# Altium footprint library PCB.PcbLib: 24 footprints (part 2 of 2)
Each footprint in its own frame and in the unit in brackets; x right, y up, seen from the top. Pads: shape width x height; smd on the part's side, far side on the other; paste and mask are expansions set on the pad; w line width, h text height; cw(c..) or ccw(c..) is an arc to the next point about the centre after c.
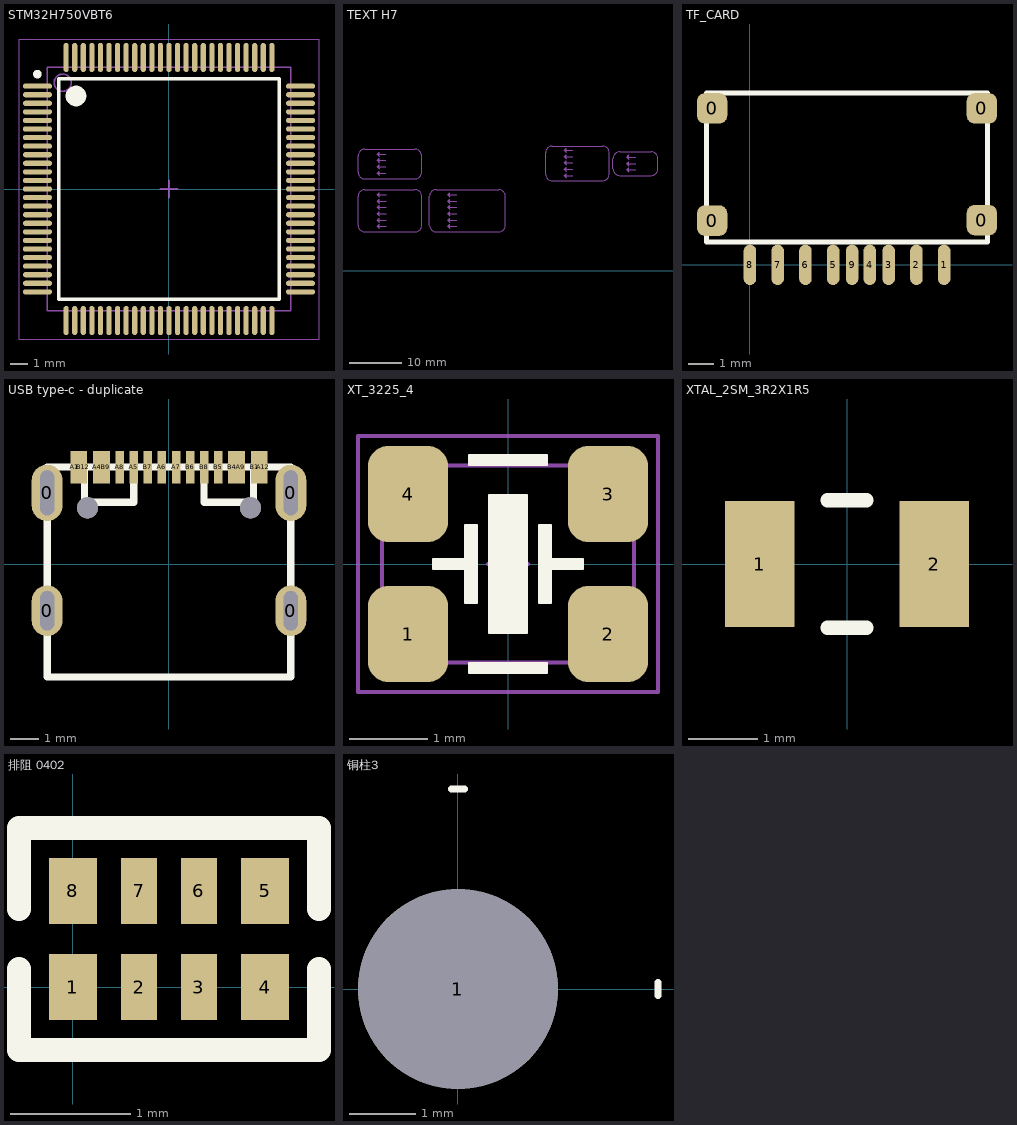
[diagram p1: the footprints below, top view; thin cyan lines are the x and y axes]

## STM32H750VBT6 [mm]
height 1.6
pads (100):
  oval 1.7x0.3 smd: 1(-7.675,6) 2(-7.675,5.5) 3(-7.675,5) 4(-7.675,4.5) 5(-7.675,4) 6(-7.675,3.5) 7(-7.675,3) 8(-7.675,2.5) 9(-7.675,2) 10(-7.675,1.5) 11(-7.675,1) 12(-7.675,0.5) 13(-7.675,0) 14(-7.675,-0.5) 15(-7.675,-1) 16(-7.675,-1.5) 17(-7.675,-2) 18(-7.675,-2.5) 19(-7.675,-3) 20(-7.675,-3.5) 21(-7.675,-4) 22(-7.675,-4.5) 23(-7.675,-5) 24(-7.675,-5.5) 25(-7.675,-6) 51(7.675,-6) 52(7.675,-5.5) 53(7.675,-5) 54(7.675,-4.5) 55(7.675,-4) 56(7.675,-3.5) 57(7.675,-3) 58(7.675,-2.5) 59(7.675,-2) 60(7.675,-1.5) 61(7.675,-1) 62(7.675,-0.5) 63(7.675,0) 64(7.675,0.5) 65(7.675,1) 66(7.675,1.5) 67(7.675,2) 68(7.675,2.5) 69(7.675,3) 70(7.675,3.5) 71(7.675,4) 72(7.675,4.5) 73(7.675,5) 74(7.675,5.5) 75(7.675,6)
  oval 0.3x1.7 smd: 26(-6,-7.675) 27(-5.5,-7.675) 28(-5,-7.675) 29(-4.5,-7.675) 30(-4,-7.675) 31(-3.5,-7.675) 32(-3,-7.675) 33(-2.5,-7.675) 34(-2,-7.675) 35(-1.5,-7.675) 36(-1,-7.675) 37(-0.5,-7.675) 38(0,-7.675) 39(0.5,-7.675) 40(1,-7.675) 41(1.5,-7.675) 42(2,-7.675) 43(2.5,-7.675) 44(3,-7.675) 45(3.5,-7.675) 46(4,-7.675) 47(4.5,-7.675) 48(5,-7.675) 49(5.5,-7.675) 50(6,-7.675) 76(6,7.675) 77(5.5,7.675) 78(5,7.675) 79(4.5,7.675) 80(4,7.675) 81(3.5,7.675) 82(3,7.675) 83(2.5,7.675) 84(2,7.675) 85(1.5,7.675) 86(1,7.675) 87(0.5,7.675) 88(0,7.675) 89(-0.5,7.675) 90(-1,7.675) 91(-1.5,7.675) 92(-2,7.675) 93(-2.5,7.675) 94(-3,7.675) 95(-3.5,7.675) 96(-4,7.675) 97(-4.5,7.675) 98(-5,7.675) 99(-5.5,7.675) 100(-6,7.675)
Top Overlay:
  circle w0.6: c-5.425,5.425 r0.3
  circle w0.25: c-7.675,6.7 r0.125
  lines w0.2: -6.425,-6.425 6.425,-6.425 6.425,6.425 -6.425,6.425 -6.425,-6.425
Mechanical 13:
  circle w0.1: c-6.2,6.2 r0.5
  lines w0.1: -7.1,-7.1 7.1,-7.1 7.1,7.1 -7.1,7.1 -7.1,-7.1
Mechanical 15:
  lines w0.05: -8.75,-8.75 8.75,-8.75 8.75,8.75 -8.75,8.75 -8.75,-8.75
  lines w0.1: -0.5,0 0.5,0 ; 0,-0.5 0,0.5
3D body "SW3dPS-LQFP100.STEP": height 1.6, standoff 0, extent -8,-8 8,8

## TEXT H7 [mm]
height 4.3
Bottom Overlay:
  lines w0.2: 18.593,18.466 16.942,18.466 ; 18.593,19.66 16.942,19.66 ; 18.593,20.853 16.942,20.853 ; 18.593,22.047 16.942,22.047 ; 18.618,8.382 16.967,8.382 ; 18.618,9.55 16.967,9.55 ; 18.618,10.77 16.967,10.77 ; 18.618,11.963 16.967,11.963 ; 18.618,13.157 16.967,13.157 ; 18.618,14.326 16.967,14.326 ; 26.848,14.072 cw(c28.118,14.072) 28.118,15.342 39.929,15.342 cw(c39.929,14.072) 41.199,14.072 ; 26.848,14.097 26.848,8.585 ccw(c28.118,8.585) 28.118,7.315 39.929,7.315 ccw(c39.929,8.585) 41.199,8.585 41.199,14.097 ; 31.979,8.382 30.328,8.382 ; 31.979,9.55 30.328,9.55 ; 31.979,10.795 30.328,10.795 ; 31.979,11.963 30.328,11.963 ; 31.979,13.157 30.328,13.157 ; 31.979,14.376 30.328,14.376 ; 53.975,18.009 52.324,18.009 ; 53.975,19.202 52.324,19.202 ; 53.975,20.396 52.324,20.396 ; 53.975,21.59 52.324,21.59 ; 53.975,22.784 52.324,22.784 ; 65.875,19.075 64.224,19.075 ; 65.875,20.269 64.224,20.269 ; 65.875,21.514 64.224,21.514 ; 70.104,19.279 cw(c68.834,19.279) 68.834,18.009 62.865,18.009 cw(c62.865,19.279) 61.595,19.279 61.595,21.209 cw(c62.865,21.209) 62.865,22.479 68.834,22.479 cw(c68.834,21.209) 70.104,21.209 ; 70.117,19.279 70.117,21.209 ; 16.942,18.466 17.323,18.847 17.323,18.085 16.942,18.466 ; 16.942,19.66 17.323,19.279 17.323,20.041 16.942,19.66 ; 16.942,20.853 17.323,21.234 17.323,20.472 16.942,20.853 ; 16.942,22.047 17.323,22.428 17.323,21.666 16.942,22.047 ; 16.967,8.382 17.348,8.001 17.348,8.763 16.967,8.382 ; 16.967,9.55 17.348,9.931 17.348,9.169 16.967,9.55 ; 16.967,10.77 17.348,11.151 17.348,10.389 16.967,10.77 ; 16.967,11.963 17.348,12.344 17.348,11.582 16.967,11.963 ; 16.967,13.157 17.348,12.776 17.348,13.538 16.967,13.157 ; 16.967,14.326 17.348,13.945 17.348,14.707 16.967,14.326 ; 30.328,8.382 30.709,8.763 30.709,8.001 30.328,8.382 ; 30.328,9.55 30.709,9.169 30.709,9.931 30.328,9.55 ; 30.328,10.795 30.709,10.414 30.709,11.176 30.328,10.795 ; 30.328,11.963 30.709,11.582 30.709,12.344 30.328,11.963 ; 30.328,13.157 30.709,13.538 30.709,12.776 30.328,13.157 ; 30.328,14.376 30.709,14.757 30.709,13.995 30.328,14.376 ; 52.324,18.009 52.705,17.628 52.705,18.39 52.324,18.009 ; 52.324,19.202 52.705,19.583 52.705,18.821 52.324,19.202 ; 52.324,20.396 52.705,20.015 52.705,20.777 52.324,20.396 ; 52.324,21.59 52.705,21.209 52.705,21.971 52.324,21.59 ; 52.324,22.784 52.705,22.403 52.705,23.165 52.324,22.784 ; 64.224,19.075 64.605,19.456 64.605,18.694 64.224,19.075 ; 64.224,20.269 64.605,19.888 64.605,20.65 64.224,20.269 ; 64.224,21.514 64.605,21.133 64.605,21.895 64.224,21.514 ; 13.31,18.644 ccw(c14.58,18.644) 14.58,17.374 24.079,17.374 ccw(c24.079,18.644) 25.349,18.644 25.349,21.717 ccw(c24.079,21.717) 24.079,22.987 14.58,22.987 ccw(c14.58,21.717) 13.31,21.717 13.31,18.644 ; 13.348,8.585 ccw(c14.618,8.585) 14.618,7.315 24.092,7.315 ccw(c24.092,8.585) 25.362,8.585 25.362,14.072 ccw(c24.092,14.072) 24.092,15.342 14.618,15.342 ccw(c14.618,14.072) 13.348,14.072 13.348,8.585 ; 48.844,18.288 ccw(c50.114,18.288) 50.114,17.018 59.614,17.018 ccw(c59.614,18.288) 60.884,18.288 60.884,22.327 ccw(c59.614,22.327) 59.614,23.597 50.114,23.597 ccw(c50.114,22.327) 48.844,22.327 48.844,18.288
  text "PC11" at 29.947,10.338 h1.3
  text "LCD_MOSI" at 60.249,19.71 h1.3
  text "PC9" at 29.947,12.725 h1.3
  text "PB4" at 51.41,21.158 h1.3
  text "PD3" at 51.41,17.577 h1.3
  text "LCD_DC" at 60.249,20.904 h1.3
  text "PE2" at 16.573,11.532 h1.3
  text "PB15" at 16.358,19.202 h1.3
  text "PC10" at 29.947,11.532 h1.3
  text "PB5" at 51.41,19.964 h1.3
  text "PB10" at 16.573,9.119 h1.3
  text "PB14" at 16.358,20.396 h1.3
  text "PC0" at 64.046,21.082 h1.3
  text "SPI2_CS1" at 25.019,17.755 h1.3
  text "SDMMC1_D1" at 40.564,12.471 h1.3
  text "LCD_RST" at 60.249,18.517 h1.3
  text "PC2" at 64.046,18.644 h1.3
  text "QSPI_CLK" at 24.727,7.696 h1.3
  text "SPI2_MISO" at 25.019,20.142 h1.3
  text "PB3" at 51.41,22.352 h1.3
  text "BK1_NCS" at 24.727,8.865 h1.3
  text "PD4" at 51.41,18.771 h1.3
  text "SDMMC1_CMD" at 40.564,7.696 h1.3
  text "PB12" at 16.358,18.009 h1.3
  text "PB13" at 16.358,21.59 h1.3
  text "PD12" at 16.573,12.725 h1.3
  text "PD11" at 16.573,13.894 h1.3
  text "PC1" at 64.046,19.837 h1.3
  text "BK1_IO0" at 24.727,13.64 h1.3
  text "LED_B" at 69.685,18.39 h1.3
  text "SDMMC1_CK" at 40.564,8.865 h1.3
  text "PD13" at 16.573,10.338 h1.3
  text "PC12" at 29.947,9.119 h1.3
  text "LCD_CLK" at 60.249,22.098 h1.3
  text "LCD_PWR" at 60.249,17.323 h1.3
  text "SDMMC1_D3" at 40.564,10.084 h1.3
  text "BK1_IO1" at 24.727,12.471 h1.3
  text "PC8" at 29.947,13.894 h1.3
  text "SPI2_MOSI" at 25.019,18.948 h1.3
  text "SPI2_SCK" at 25.019,21.336 h1.3
  text "LED_R" at 69.685,20.828 h1.3
  text "LED_G" at 69.685,19.583 h1.3
  text "BK1_IO3" at 24.727,10.084 h1.3
  text "PB2" at 16.573,7.95 h1.3
  text "PD2" at 29.947,7.95 h1.3
  text "SDMMC1_D0" at 40.564,13.64 h1.3
  text "BK1_IO2" at 24.727,11.278 h1.3
  text "SDMMC1_D2" at 40.564,11.278 h1.3

## TF_CARD [mm]
pads (13):
  rrect50% 1.2x1.2 smd: 0(-1.499,1.753) 0(-1.499,6.203) 0(9.194,1.772) 0(9.194,6.203)
  oval 0.5x1.6 smd: 1(7.7,0) 2(6.6,0) 3(5.5,0) 4(4.75,0) 5(3.3,0) 6(2.2,0) 7(1.1,0) 8(0,0) 9(4.05,0)
Top Overlay:
  lines w0.2: -1.727,6.787 -1.727,0.912 9.423,0.912 9.423,6.812 -1.727,6.812

## USB type-c - duplicate [mm]
pads (22):
  oval 1.1x1.8 hole 0.5 slot 1.4 at 90 deg: 0(-4.318,-1.651) 0(4.322,-1.651)
  oval 1.1x2 hole 0.5 slot 1.6 at 90 deg: 0(-4.318,2.529) 0(4.322,2.529)
  rect 0.3x1.15 smd: A1(-3.348,3.442) A4(-2.548,3.44) A5(-1.248,3.444) A6(-0.248,3.444) A7(0.252,3.442) A8(-1.748,3.444) A9(2.552,3.444) A12(3.352,3.444) B1(3.052,3.444) B4(2.252,3.444) B5(1.752,3.444) B6(0.752,3.444) B7(-0.748,3.442) B8(1.252,3.444) B9(-2.248,3.44) B12(-3.048,3.442)
  round 0.75 hole 0.75 unplated: ""(-2.888,1.999) ""(2.892,1.999)
Top Overlay:
  lines w0.254: -2.998,3.444 -2.998,2.194 -1.248,2.194 -1.248,3.444 ; 1.249,3.446 1.249,2.196 2.999,2.196 2.999,3.446 ; -4.318,-4.006 -4.318,3.444 4.322,3.444 4.322,-4.006 -4.318,-4.006
3D body "USB4125_GF_A_3.sldprt": height 3.26, standoff -1, extent -4.47,-3.662 4.47,3.238

## XT_3225_4 [mil]
height 47.24
pads (4):
  rrect50% 40x48 smd: 1(-50,-35) 2(50,-35) 3(50,35) 4(-50,35)
Top Overlay:
  region: 19.5,-54.5 -19.5,-54.5 -19.5,-49.5 19.5,-49.5
  region: 21.5,-19.5 15.5,-19.5 15.5,19.5 21.5,19.5 21.5,2.5 37.5,2.5 37.5,-2.5 21.5,-2.5
  region: -21.5,19.5 -15.5,19.5 -15.5,-19.5 -21.5,-19.5 -21.5,-2.5 -37.5,-2.5 -37.5,2.5 -21.5,2.5
  region: -9.5,34.5 9.5,34.5 9.5,-34.5 -9.5,-34.5
  region: -19.5,54.5 19.5,54.5 19.5,49.5 -19.5,49.5
  lines w1: -37.5,-2.5 -37.5,2.5 -21.5,2.5 -21.5,19.5 -15.5,19.5 -15.5,-19.5 -21.5,-19.5 -21.5,-2.5 -37.5,-2.5 ; -19.5,-54.5 -19.5,-49.5 19.5,-49.5 19.5,-54.5 -19.5,-54.5 ; -19.5,49.5 -19.5,54.5 19.5,54.5 19.5,49.5 -19.5,49.5 ; -9.5,-34.5 9.5,-34.5 9.5,34.5 -9.5,34.5 -9.5,-34.5 ; 15.5,-19.5 15.5,19.5 21.5,19.5 21.5,2.5 37.5,2.5 37.5,-2.5 21.5,-2.5 21.5,-19.5 15.5,-19.5
Mechanical 13:
  lines w2: -10,0.01 10,0.01 ; 0.01,-10 0.01,10 ; -63,-49.21 62.99,-49.21 62.99,49.21 -63,49.21 -63,-49.21
Mechanical 14:
  lines w2: -75,-64 -75,64 75,64 75,-64 -75,-64
  text ".Designator" at -35,-20 h80
3D body "User Library-SG310.STEP": height 41.34, standoff 0, extent -62.98,-49.21 63,49.21

## XTAL_2SM_3R2X1R5 [mm] "CRYSTAL 32.768KHZ 6PF SMD 2 pads"
height 1.1
pads (2):
  rect 1x1.8 smd: 1(-1.25,0) 2(1.25,0)
Top Overlay:
  lines w0.203: -0.279,-0.914 0.279,-0.914 ; -0.279,0.914 0.279,0.914
3D body "ABS07-120.STEP": height 0.89, standoff 0, extent -1.628,-0.752 1.577,0.752

## 排阻 0402 [mm]
pads (8):
  rect 0.4x0.55 smd: 1(0,0) 4(1.6,0) 5(1.6,0.8) 8(0,0.8)
  rect 0.3x0.55 smd: 2(0.55,0) 3(1.05,0) 6(1.05,0.8) 7(0.55,0.8)
Top Overlay:
  lines w0.2: -0.45,0.15 -0.45,-0.525 2.05,-0.525 2.05,0.15 ; -0.45,0.65 -0.45,1.325 2.05,1.325 2.05,0.65
3D body "YC124-1.step": height 0.45, standoff 0, extent -0.2,-0.093 1.8,0.907

## 铜柱3 [mm]
pads (1):
  round 3 hole 3: 1(0,0)
Top Overlay:
  lines w0.1: -0.1,3 0.1,3 ; 3,-0.1 3,0.1